# Altium footprint library CFR-25JB-52-1K.PcbLib: 1 footprints
Each footprint in its own frame and in the unit in brackets; x right, y up, seen from the top. Pads: shape width x height; smd on the part's side, far side on the other; paste and mask are expansions set on the pad; w line width, h text height; cw(c..) or ccw(c..) is an arc to the next point about the centre after c.
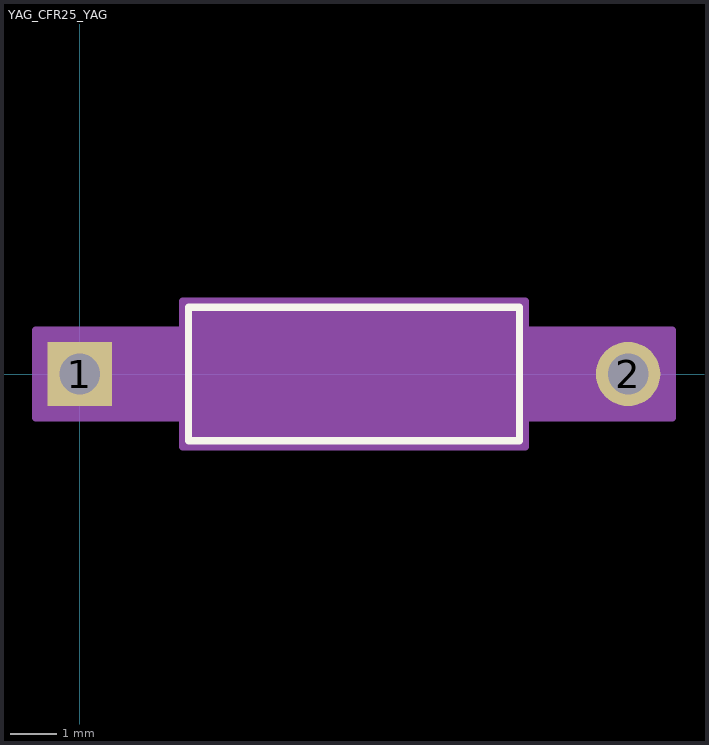
[diagram p0: the footprint, top view; thin cyan lines are the x and y axes]

## YAG_CFR25_YAG [mil]
pads (2):
  rect 54x54 hole 34 paste-27 mask+0: 1(0,0)
  round 54 hole 34 paste-27 mask+0: 2(460,0)
Top Overlay:
  lines w6: 91,-56 369,-56 369,56 91,56 91,-56
  text ".Designator" at 92.5,-25 h50
Mechanical 13:
  lines w1: 0,0 96,0 ; 364,0 460,0 ; 96,-51 364,-51 364,51 96,51 96,-51
  text ".Designator" at 92.5,-25 h50
Mechanical 15:
  region: 86,-37 -37,-37 -37,37 86,37 86,61 374,61 374,37 497,37 497,-37 374,-37 374,-61 86,-61
  lines w6: -37,-37 -37,37 86,37 86,61 374,61 374,37 497,37 497,-37 374,-37 374,-61 86,-61 86,-37 -37,-37
3D body "YAG_CFR25_YAG.step": height 101.98, standoff -110, extent -12.01,-50.63 472.01,50.63